# Altium schematic symbol library SBR3U40S1F-7.SchLib: 1 symbol
Pins are listed as number, name and electrical type; pins without a type are passive.

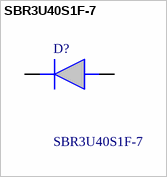
[diagram p0: symbol SBR3U40S1F-7]

## SBR3U40S1F-7
designator D?
Rectifiers SBR Diode 3A SBR SUPER BARRIER RECTIFIER; Manufacturer_Name: Diodes Incorporated; Geometry.Height: 1.15mm; Manufacturer_Part_Number: SBR3U40S1F-7; Mouser Part Number: 621-SBR3U40S1F-7; Mouser Price/Stock: https://www.mouser.co.uk/ProductDetail/Diodes-Incorporated/SBR3U40S1F-7?qs=HXFqYaX1Q2yP2B8FJNWOhg%3D%3D; Arrow Part Number: SBR3U40S1F-7; Arrow Price/Stock: https://www.arrow.com/en/products/sbr3u40s1f-7/diodes-incorporated; Datasheet Link: https://www.arrow.com/en/products/sbr3u40s1f-7/diodes-incorporated
footprint SODFL3518X115N
pins: 1 K, 2 A